# EAGLE library part OSL10564-74HC595-X (library mylib)
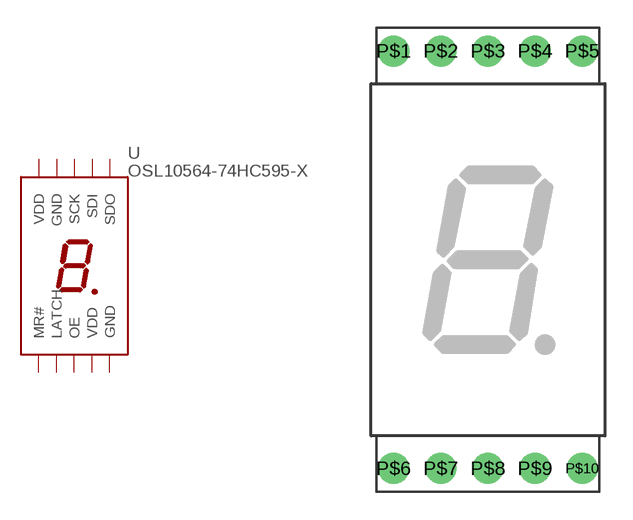
[diagram p0: symbol with the pads of AE-7SEG-BORAD; footprint AE-7SEG-BORAD]

Designator prefix -

## OSL10564-74HC595-X  [AE-7SEG-BORAD]
P$1  VDD  pwr
P$2  GND  pwr
P$3  SCK  in
P$4  SDI  in
P$5  SDO  out
P$6  MR#  in
P$7  LATCH  in
P$8  OE  in
P$9  VDD  pwr
P$10  GND  pwr

## Footprint AE-7SEG-BORAD (pad centres in mm)
drill 0.8 pad 1.676: P$1 -5.08,11.25; P$2 -2.54,11.25; P$3 0,11.25; P$4 2.54,11.25; P$5 5.08,11.25; P$6 -5.08,-11.25; P$7 -2.54,-11.25; P$8 0,-11.25; P$9 2.54,-11.25; P$10 5.08,-11.25